# EAGLE library part R5F52206BDFM#30 (library R5F52206BDFM#30)
The RX220 Group of products is the slimmed-down version of the higher model RX210 Group, and has very high compatibilility in terms of pin arrangement and on the software level. Source: Datasheet <https://www.renesas.com/sg/en/doc/products/mpumcu/doc/rx_family/r01ds0130ej0110_rx220.pdf>
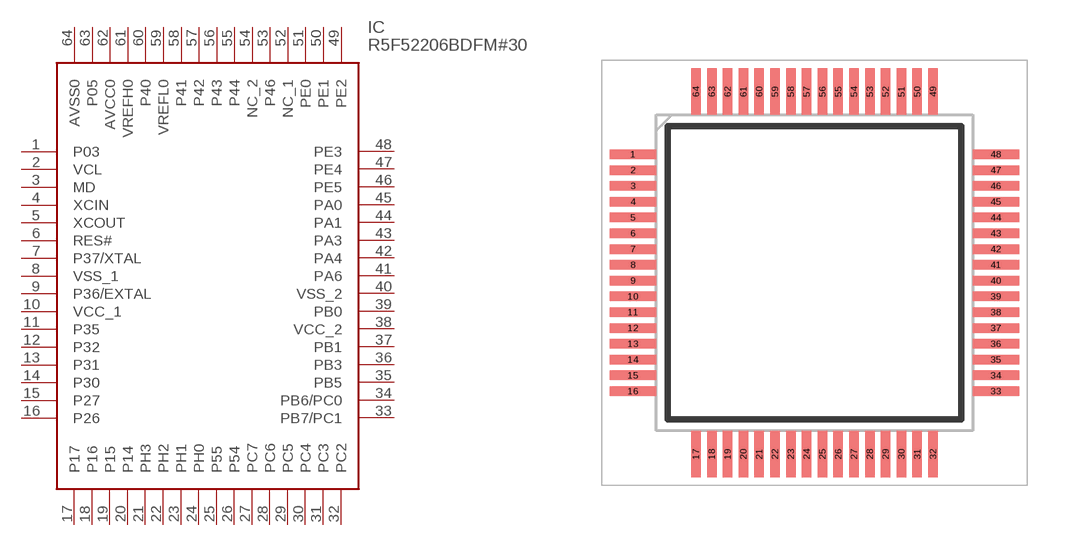
[diagram p0: symbol with the pads of QFP50P1200X1200X170-64N; footprint QFP50P1200X1200X170-64N]

Designator prefix IC

## R5F52206BDFM#30 (Arrow_Part_Number: R5F52206BDFM#30; Arrow_Price-Stock: https://www.arrow.com/en/products/r5f52206bdfm30/renesas-electronics; Description: The RX220 Group of products is the slimmed-down version of the higher model RX210 Group, and has very high compatibilility in terms of pin arrangement and on the software level.; Height: 1.7mm; Manufacturer_Name: Renesas Electronics; Manufacturer_Part_Number: R5F52206BDFM#30; Mouser_Part_Number: 968-R5F52206BDFM#30; Mouser_Price-Stock: https://www.mouser.co.uk/ProductDetail/Renesas-Electronics/R5F52206BDFM30/?qs=ZVKuL1Ob8AunE2VrwZ7crw%3D%3D)  [QFP50P1200X1200X170-64N]
1  P03
2  VCL
3  MD
4  XCIN
5  XCOUT
6  RES#
7  P37/XTAL
8  VSS_1
9  P36/EXTAL
10  VCC_1
11  P35
12  P32
13  P31
14  P30
15  P27
16  P26
17  P17
18  P16
19  P15
20  P14
21  PH3
22  PH2
23  PH1
24  PH0
25  P55
26  P54
27  PC7
28  PC6
29  PC5
30  PC4
31  PC3
32  PC2
33  PB7/PC1
34  PB6/PC0
35  PB5
36  PB3
37  PB1
38  VCC_2
39  PB0
40  VSS_2
41  PA6
42  PA4
43  PA3
44  PA1
45  PA0
46  PE5
47  PE4
48  PE3
49  PE2
50  PE1
51  PE0
52  NC_1
53  P46
54  NC_2
55  P44
56  P43
57  P42
58  P41
59  VREFL0
60  P40
61  VREFH0
62  AVCC0
63  P05
64  AVSS0

## Footprint QFP50P1200X1200X170-64N (pad centres in mm)
PLQP0064KB-A--
smd 1.475 x 0.3: 1 -5.738,3.75; 2 -5.738,3.25; 3 -5.738,2.75; 4 -5.738,2.25; 5 -5.738,1.75; 6 -5.738,1.25; 7 -5.738,0.75; 8 -5.738,0.25; 9 -5.738,-0.25; 10 -5.738,-0.75; 11 -5.738,-1.25; 12 -5.738,-1.75; 13 -5.738,-2.25; 14 -5.738,-2.75; 15 -5.738,-3.25; 16 -5.738,-3.75; 33 5.738,-3.75; 34 5.738,-3.25; 35 5.738,-2.75; 36 5.738,-2.25; 37 5.738,-1.75; 38 5.738,-1.25; 39 5.738,-0.75; 40 5.738,-0.25; 41 5.738,0.25; 42 5.738,0.75; 43 5.738,1.25; 44 5.738,1.75; 45 5.738,2.25; 46 5.738,2.75; 47 5.738,3.25; 48 5.738,3.75
smd 0.3 x 1.475: 17 -3.75,-5.738; 18 -3.25,-5.738; 19 -2.75,-5.738; 20 -2.25,-5.738; 21 -1.75,-5.738; 22 -1.25,-5.738; 23 -0.75,-5.738; 24 -0.25,-5.738; 25 0.25,-5.738; 26 0.75,-5.738; 27 1.25,-5.738; 28 1.75,-5.738; 29 2.25,-5.738; 30 2.75,-5.738; 31 3.25,-5.738; 32 3.75,-5.738; 49 3.75,5.738; 50 3.25,5.738; 51 2.75,5.738; 52 2.25,5.738; 53 1.75,5.738; 54 1.25,5.738; 55 0.75,5.738; 56 0.25,5.738; 57 -0.25,5.738; 58 -0.75,5.738; 59 -1.25,5.738; 60 -1.75,5.738; 61 -2.25,5.738; 62 -2.75,5.738; 63 -3.25,5.738; 64 -3.75,5.738